# Altium schematic symbol library AltiumLibraries.SchLib: 537 symbols (part 2 of 5)
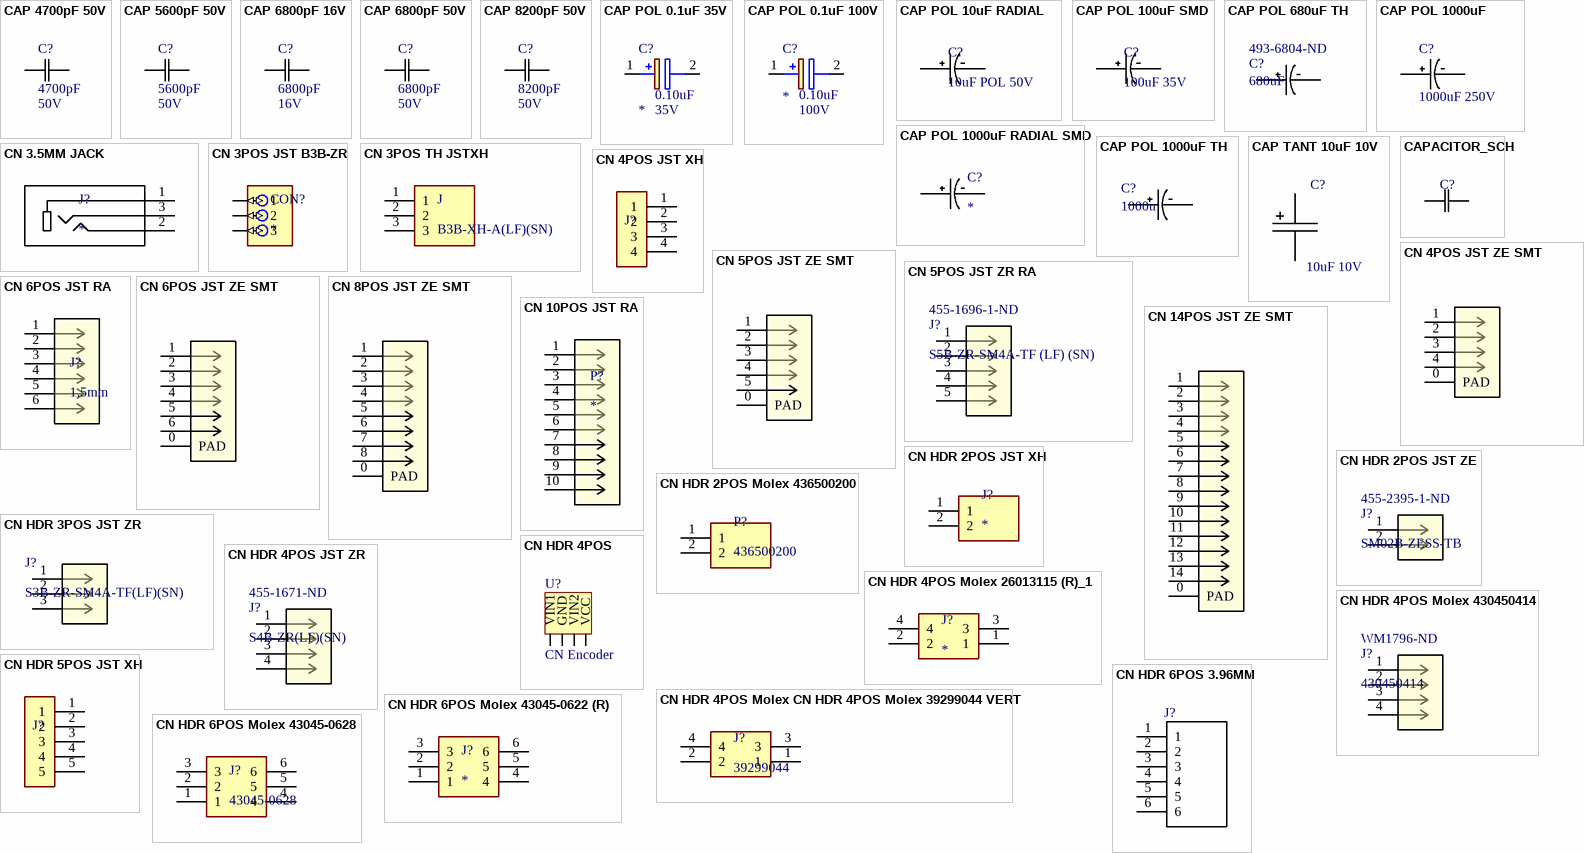
[diagram p15: symbols CAP 4700pF 50V to CN HDR 6POS Molex 43045-0628]

## CN 8POS JST ZE SMT
designator J?, comment BM08B-ZESS-TBT(LF)(SN)
CONN HEADER VERT SMD 8POS ZE; Supplier 1: Digi-Key; Supplier Part Number 1: 455-2386-1-ND
footprint JST ZE SMT 8POS (8 POS HDR JST ZE)
pins: 0 PAD, 1, 2, 3, 4, 5, 6, 7, 8

## CN 10POS JST RA
designator P?
Connector Header Through Hole, Right Angle 10 position 0.059" (1.50mm) ZH Series
footprint 10POS JST
pins: 1, 2, 3, 4, 5, 6, 7, 8, 9, 10

## CN 14POS JST ZE SMT
designator J?, comment BM14B-ZESS-TBT(LF)(SN)
CONN HEADER VERT SMD 14POS ZE; Supplier 1: Digi-Key; Supplier Part Number 1: 455-4210-1-ND
footprint JST ZE SMT 14POS (14 POS HDR JST ZE)
pins: 0 PAD, 1, 2, 3, 4, 5, 6, 7, 8, 9, 10, 11, 12, 13, 14

## CN HDR 2POS JST XH
designator J?
Connector Header Through Hole 2 position 0.098 _2.50mm_ / JST XH; MP: B2B-XH-A_LF__SN_; MF: JST Sales; Price: None; Package: None; Value: *; Availability: Unavailable; SnapEDA_Link: https://www.snapeda.com/parts/B2B-XH-A%28LF%29%28SN%29/JST%20Sales%20America%20Inc./view-part/492310/?ref=snap
footprint JST_B2B-XH-A(LF)(SN)
footprint JST_S2B-XH-A(LF)(SN)
pins: 1, 2

## CN HDR 2POS JST ZE
designator J?, comment SM02B-ZESS-TB  Supplier Part Number 1: 455-2395-1-ND
Connector Header Surface Mount, Right Angle 2 position 0.059" (1.50mm); Mfr_Name: JST; Copyright: Copyright (C) 2021 Ultra Librarian. All rights reserved.; Manufacturer_Part_Number: SM02B-ZESS-TB; RefDes: RefDes; Type: DEV; Supplier 1: Digi-Key
footprint CN SM02B-ZESS-TB_JST
pins: 1, 2

## CN HDR 2POS Molex 436500200
designator P?, comment 436500200
Connector Header Through Hole, Right Angle 2 position 0.118 (3.00mm); MF: Molex; MP: 436500200; Availability: Warning; SnapEDA_Link: https://www.snapeda.com/parts/436500200/Molex/view-part/4523841/?ref=snap; Package: None; Value: *; Price: None; Supplier 1: Digi-Key; Supplier Part Number 1: WM1860-ND
footprint MOLEX_436500200
pins: 1, 2

## CN HDR 3POS JST ZR
designator J?, comment S3B-ZR-SM4A-TF(LF)(SN)
Connector Header Surface Mount, Right Angle 3 position 0.059" (1.50mm); Mfr_Name: JST; Copyright: Copyright (C) 2021 Ultra Librarian. All rights reserved.; Manufacturer_Part_Number: S3B-ZR-SM4A-TF(LF)(SN); RefDes: RefDes; Type: DEV; ComponentLink1Description: Newark Link; ComponentLink1URL: https://canada.newark.com/jst-japan-solderless-terminals/s3b-zr-sm4a-tf/wire-to-board-connector-side-entry/dp/90R9343?CMP=AFC-OP
footprint CN S3B-ZR-SM4A-TF(LF)(SN)_JST
pins: 1, 2, 3

## CN HDR 4POS
designator U?, comment CN Encoder
CN HDR R/A 4POS 1.5MM; MF: JST Sales America Inc.; MP: S4B-ZR(LF)(SN); Rating: 1A; Digikey: 455-1671-ND; Digikey Link: https://www.digikey.ca/products/en?keywords=455-1671-ND; Price: 0.324 CAD; Package: N/A; Value: N/A; Supplier 1: Digi-Key; Supplier Part Number 1: 455-1671-ND
footprint EncoderConnector (CONN HEADER R/A 4POS 1.5MM)
pins: GND (power), VCC (power), VIN1 (in), VIN2 (in)

## CN HDR 4POS JST ZR
designator J?, comment S4B-ZR(LF)(SN)  Supplier Part Number 1: 455-1671-ND
Connector Header Through Hole, Right Angle 4 position 0.059" (1.50mm); Mfr_Name: JST; Copyright: Copyright (C) 2021 Ultra Librarian. All rights reserved.; Manufacturer_Part_Number: S4B-ZR(LF)(SN); Digi-Key_Part_Number_1: 455-1671-ND; RefDes: RefDes; Type: DEV; Supplier 1: Digi-Key
footprint CN S4B-ZR(LF)(SN)_JST
pins: 1, 2, 3, 4

## CN HDR 4POS Molex 26013115 (R)_1
designator J?
Molex 26013115 4POS Minifit / dual row, right angle
footprint 26013115
pins: 1, 2, 3, 4

## CN HDR 4POS Molex 430450414
designator J?, comment 430450414  Supplier Part Number 1: WM1796-ND
Connector Header Through Hole 4 position 0.118" (3.00mm); Mfr_Name: Molex Connector Corporation; Copyright: Copyright (C) 2021 Ultra Librarian. All rights reserved.; Manufacturer_Part_Number: 430450414; RefDes: RefDes; Type: DEV; Supplier 1: Digi-Key
footprint CN 430450414_MOL
pins: 1, 2, 3, 4

## CN HDR 4POS Molex CN HDR 4POS Molex 39299044 VERT
designator J?, comment 39299044
Molex 39299044 4POS Minifit / dual row, vertical; Supplier 1: Digi-Key; Supplier Part Number 1: WM7336-ND
footprint 39299044 (4 POS MOLEX VERT)
pins: 1, 2, 3, 4

## CN HDR 5POS JST XH
designator J?
Connector Header Through Hole 5 position 0.098" (2.50mm); MP: B5B-XH-A(LF)(SN); MF: JST Sales; Price: None; Package: None; Value: *; Availability: Unavailable; Digikey: 455-2270-ND; ComponentLink1Description: Digikey; ComponentLink1URL: https://www.digikey.ca/en/products/detail/jst-sales-america-inc/B5B-XH-A-LF-SN/1530483
footprint JST_B5B-XH-A(LF)(SN)
pins: 1, 2, 3, 4, 5

## CN HDR 6POS 3.96MM
designator J?, comment CONN HEADER VERT 6POS 3.96MM  (value not drawn)
MF: TE Connectivity; MP: 1877285-6; Current Rating: 7.5A; Voltage Rating: 250VAC; SnapEDA_Link: https://www.snapeda.com/parts/1877285-6/TE%20Connectivity/view-part/2371244/?ref=snap; Digikey: A99849-ND; Digikey Link: https://www.digikey.ca/product-detail/en/te-connectivity-amp-connectors/1877285-6/A99849-ND/2000097; Supplier 1: Digi-Key; Supplier Part Number 1: A99849-ND
footprint CN HDR 6POS 3.96MM
pins: 1, 2, 3, 4, 5, 6

## CN HDR 6POS Molex 43045-0622 (R)
designator J?
Molex 43045-0622 6POS Microfit / dual row, right angle
footprint 430450622
pins: 1, 2, 3, 4, 5, 6

## CN HDR 6POS Molex 43045-0628
designator J?, comment 43045-0628
Molex 43045-0628 6POS Microfit / dual row, Vertical; Supplier 1: Digi-Key; Supplier Part Number 1: WM10679-ND
footprint 430450628 (6 POS VERT MOLEX)
pins: 1, 2, 3, 4, 5, 6

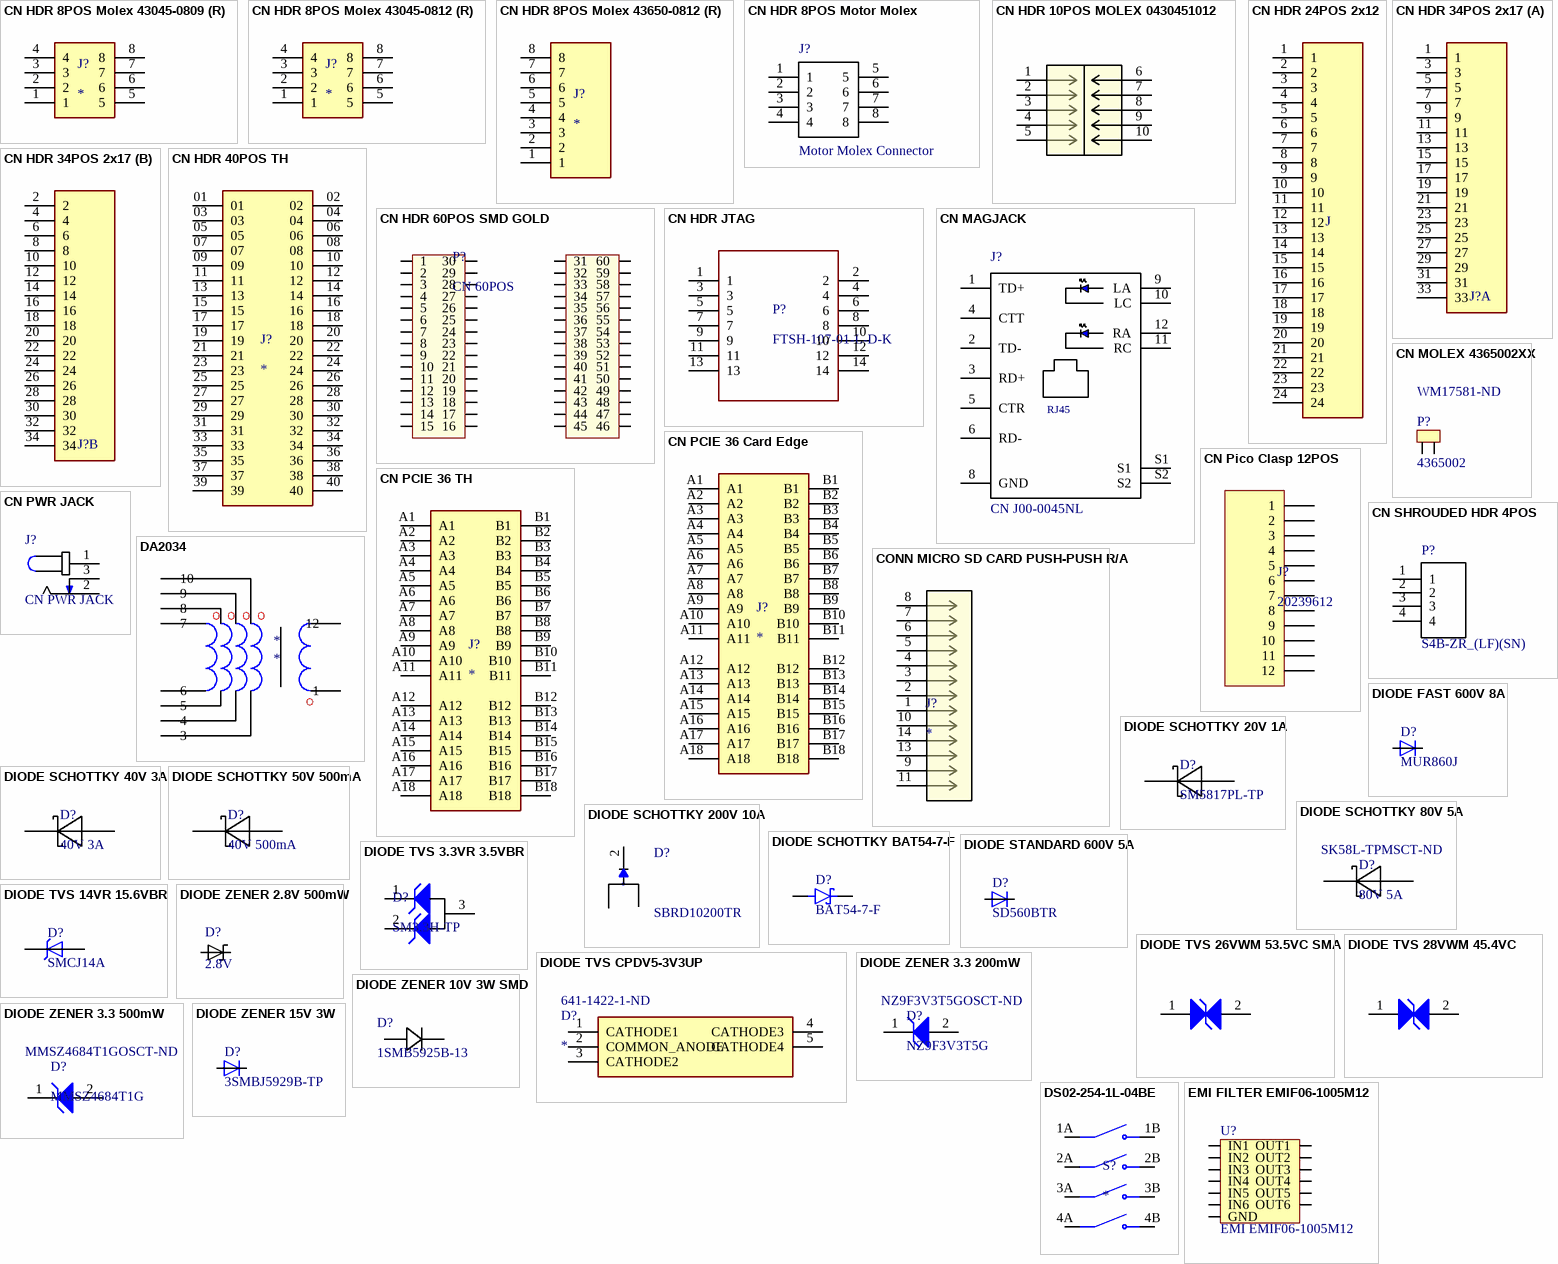
[diagram p4: symbols CN HDR 8POS Molex 43045-0809 (R) to EMI FILTER EMIF06-1005M12]

## CN HDR 8POS Molex 43045-0809 (R)
designator J?
Molex 43045-0809 8POS Microfit / dual row, right angle, surface mount
footprint CN 043045-0809 (Molex Micro-Fit 0430450 SMD 8CKT)
pins: 1, 2, 3, 4, 5, 6, 7, 8

## CN HDR 8POS Molex 43045-0812 (R)
designator J?
Molex 43045-0812 8POS Microfit / DR TH Vertical
footprint 4304508 (CN Vertical 8 Pin TH)
pins: 1, 2, 3, 4, 5, 6, 7, 8

## CN HDR 8POS Molex 43650-0812 (R)
designator J?
Molex 43650-0812 8POS Microfit / single row, right angle, surface mount
footprint CN 43650-0812 (Molex Micro-Fit 043650 SMD 8CKT)
pins: 1, 2, 3, 4, 5, 6, 7, 8

## CN HDR 8POS Motor Molex
designator J?, comment Motor Molex Connector
Connector Header Through Hole 8 position 0.165" (4.20mm); MP: 0039281083; MF: Molex; Digikey: WM3803-ND; Price: 1.624 CAD; Value: N/A; Digikey Link: https://www.digikey.ca/products/en?keywords=WM3803-ND; Supplier 1: Digi-Key; Supplier Part Number 1: WM3803-ND
footprint MOLEX_0039281083
pins: 1, 2, 3, 4, 5, 6, 7, 8

## CN HDR 10POS MOLEX 0430451012
designator J?, comment 8A Molex
CONN HEADER VERT 10POS 3MM; Manufacturer Part Number: 0430451012; Number of Terminals/Pins: 10; Contact Resistance: 10mR; Connector Type: Male Pin; Number of Ports: 1; Max Voltage Rating (AC): 250V; Pitch: 0.118inch; Supplier 1: Digi-Key; Manufacturer: Molex; RoHS: Yes; Category: Headers and Wire Housings; Stock 1: 22123; Pricing 1: 1=2.46000, 10=2.09300, 80=1.72925, 1224=1.36521, 6120=1.21049 (USD); Mount: Through Hole; Color: Black; Contact Material: Brass; Contact Plating: Tin; Housing Color: Black; Housing Material: Polymer; Min Operating Temperature: -40°C; Max Operating Temperature: 105°C; Packaging: Tray; Number of Rows: 2; Number of Positions: 10; Termination: Solder; Number of Contacts: 10; Orientation: Straight; Series: Micro-Fit 3.0™ 43045; Fastening Type: Ramp; Contact Type: Male Pin; Length: 19.15mm; Row Spacing: 0.118inch; Depth: 8.77mm; Flammability Rating: UL94 V-0; RoHS Compliant: Yes; ComponentLink1URL: http://components.arrow.com/part/dataview/0323_01052363?src-supplier=Arrow+Europe; ComponentLink1Description: http://components.arrow.com/part/dataview/0323_01052363?src-supplier=Arrow+Europe; ComponentLink2URL: http://components.arrow.com/part/dataview/2943140S3689940N3303?src-supplier=Arrow+Electronics; ComponentLink2Description: http://components.arrow.com/part/dataview/2943140S3689940N3303?src-supplier=Arrow+Electronics; Supplier Part Number 1: WM1793-ND
footprint MOLEX_0430451012
pins: 1, 2, 3, 4, 5, 6, 7, 8, 9, 10

## CN HDR 24POS 2x12
designator J  (value not drawn)
Pin Connector 2X12P MOD2 STIFTLEI 24 POS 0.1" 2.54mm
footprint CN Header 24 POS (12x2) (24 position, dual row, standard 0.1" (2.54mm) spacing.)
pins: 1, 2, 3, 4, 5, 6, 7, 8, 9, 10, 11, 12, 13, 14, 15, 16, 17, 18, 19, 20, 21, 22, 23, 24

## CN HDR 34POS 2x17
designator J?, comment 0.1" Header Female 34  (value not drawn)
Female Header THRU 34POS 2ROW 0.1" (2.54mm) pitch
footprint SAMTEC_ESQ-117-12-L-D
footprint SAMTEC-SSM-117-X-DV
part A pins: 1, 3, 5, 7, 9, 11, 13, 15, 17, 19, 21, 23, 25, 27, 29, 31, 33
part B pins: 2, 4, 6, 8, 10, 12, 14, 16, 18, 20, 22, 24, 26, 28, 30, 32, 34

## CN HDR 40POS TH
designator J?
SSQ - Samtec 2.54mm Square Tail Dual Row Socket Strip 8.5mm Profile; MP: SSQ-120-22-G-D; Value: *; Price: None; Package: None; MF: Samtec; Check_prices: https://www.snapeda.com/parts/SSQ-120-22-G-D/Samtec/view-part/3393219/?ref=eda; Availability: In Stock; SnapEDA_Link: https://www.snapeda.com/parts/SSQ-120-22-G-D/Samtec/view-part/3393219/?ref=snap; Purchase-URL: https://pricing.snapeda.com/search/part/SSQ-120-22-G-D/?ref=eda; Digikey: S6104-ND
footprint SAMTEC_SSQ-120-22-G-D
pins: 01, 02, 03, 04, 05, 06, 07, 08, 09, 10, 11, 12, 13, 14, 15, 16, 17, 18, 19, 20, 21, 22, 23, 24, 25, 26, 27, 28, 29, 30, 31, 32, 33, 34, 35, 36, 37, 38, 39, 40

## CN HDR 60POS SMD GOLD
designator P?, comment CN 60POS
60 Position Connector Header, Outer Shroud Contacts Surface Mount Gold; MF: Panasonic Electric Works; MP: AXK6S60647YG; Digikey: 255-2536-1-ND; Digikey Link: https://www.digikey.ca/product-detail/en/panasonic-electric-works/AXK6S60647YG/255-2536-1-ND/1986699; Price: 3.718; Value: N/A; Tolerance: N/A; Rating: N/A; Package: N/A; Supplier 1: Digi-Key; Supplier Part Number 1: 255-2536-1-ND
footprint CN HDR 60POS (60 Position Connector Header, Outer Shroud Contacts Surface Mount Gold)
pins: 1, 2, 3, 4, 5, 6, 7, 8, 9, 10, 11, 12, 13, 14, 15, 16, 17, 18, 19, 20, 21, 22, 23, 24, 25, 26, 27, 28, 29, 30, 31, 32, 33, 34, 35, 36, 37, 38, 39, 40, 41, 42, 43, 44, 45, 46, 47, 48, 49, 50, 51, 52, 53, 54, 55, 56, 57, 58, 59, 60

## CN HDR JTAG
designator P?, comment FTSH-107-01-L-D-K
Connector Header Through Hole 14 position 0.050" (1.27mm); MF: Samtec Inc.; Rating: 3.4A; ComponentLink1Description: Digikey; ComponentLink1URL: https://www.digikey.ca/product-detail/en/samtec-inc/FTSH-107-01-L-D-K/612-FTSH-107-01-L-D-K-ND/6693516; ComponentLink2Description: Datasheet; ComponentLink2URL: https://www.digikey.ca/en/datasheets/samtecinc/samtec-inc-ftsh-1xx-xx-xx-d-xx-xx-mkt; Digikey: 612-FTSH-107-01-L-D-K-ND; Digikey Link: https://www.digikey.ca/product-detail/en/samtec-inc/FTSH-107-01-L-D-K/612-FTSH-107-01-L-D-K-ND/6693516; MP: FTSH-107-01-L-D-K; Price: 5.14000 CAD; Supplier 1: Mouser; Supplier Part Number 1: 200-FTSH10701LDK
footprint CN HDR JTAG (CONN HEADER VERT 14POS 1.27MM)
pins: 1, 2, 3, 4, 5, 6, 7, 8, 9, 10, 11, 12, 13, 14

## CN MAGJACK
designator J?, comment CN J00-0045NL
CN MAGJACK 1PORT 100 BASE-TX; MF: Pulse Electronics; Package: None; Digikey Link: https://www.digikey.com/product-detail/en/pulse-electronics-network/J00-0045NL/553-1619-5-ND/1036860?utm_source=snapeda&utm_medium=aggregator&utm_campaign=symbol; Digikey: 553-1619-5-ND; SnapEDA_Link: https://www.snapeda.com/parts/J00-0045NL/Pulse%20Electronics%20Network/view-part/87956/?ref=snap; MP: J00-0045NL; Value: *; Supplier 1: Mouser; Supplier Part Number 1: 673-J00-0045NL
footprint RJ45 J00-0045NL
pins: 1 TD+, 2 TD-, 3 RD+, 4 CTT, 5 CTR, 6 RD-, 8 GND, 9 LA, 10 LC, 11 RC, 12 RA, S1, S2
text: RJ45

## CN MOLEX 4365002XX
designator P?, comment 4365002  Supplier Part Number 2: WM17581-ND
MOLEX MICROFIT 2CKT RIGHT THRU; MP: 4365002XX; MF: MOLEX; Digikey: WM17581-ND; Digikey Link: https://www.digikey.com/en/products/detail/molex/0436500205/3310532?s=N4IgTCBcDaICwGYBsBWADGsaUgLoF8g; Package: Microfit; Price: 1.44 CAD; Value: N/A; Supplier 1: Digi-Key
footprint 43650-02 (Molex Microfit 2PIN RightAngle Thru)
pins: 1, 2

## CN PCIE 36 Card Edge
designator J?
36 Position Male PCIE Connector
footprint CN PCIE EDGE 36CKT (PCIE X1 36pin card edge)
pins: A1, A2, A3, A4, A5, A6, A7, A8, A9, A10, A11, A12, A13, A14, A15, A16, A17, A18, B1, B2, B3, B4, B5, B6, B7, B8, B9, B10, B11, B12, B13, B14, B15, B16, B17, B18

## CN PCIE 36 TH
designator J?
36 Position Female Connector PCI Expressâ„¢ Gold 0.039 _1.00mm_ Black 10018784-10210TLF; MF: Amphenol ICC; Price: None; SnapEDA_Link: https://www.snapeda.com/parts/10018784-10210TLF/Amphenol%20FCI/view-part/520950/?ref=snap; Availability: Unavailable; MP: 10018784-10210TLF; Package: None; Value: *
footprint CN PCIE 36 TH (AMPHENOL_10018784-10210TLF)
pins: A1, A2, A3, A4, A5, A6, A7, A8, A9, A10, A11, A12, A13, A14, A15, A16, A17, A18, B1, B2, B3, B4, B5, B6, B7, B8, B9, B10, B11, B12, B13, B14, B15, B16, B17, B18

## CN Pico Clasp 12POS
designator J?, comment 20239612
12 POS Right Angle Pico Clasp Surface Mount
footprint CN 20239612 (12 Circuit SMD Right Angle PicoClasp)
footprint CN 20355612 (12 Circuit SMD Right Angle PicoClasp)
pins: 1, 2, 3, 4, 5, 6, 7, 8, 9, 10, 11, 12

## CN PWR JACK
designator J?
1.3 x 4.2 mm, 2.0 A, Horizontal, Through Hole, Dc Power Jack Connector; MP: PJ-007; MF: CUI Devices; Current Rating: 2.0A; Price: None; SnapEDA_Link: https://www.snapeda.com/parts/PJ-007/CUI%20Devices/view-part/260682/?ref=snap; Package: None; Availability: Unavailable; CUI_purchase_URL: https://www.cuidevices.com/product/interconnect/connectors/dc-power-connectors/jacks/pj-007?utm_source=snapeda.com&utm_medium=referral&utm_campaign=snapedaBOM; Value: *; Supplier 1: Digi-Key; Supplier Part Number 1: CP-2519-ND
footprint CUI_PJ-007
pins: 1, 2, 3

## CN SHROUDED HDR 4POS
designator P?, comment S4B-ZR_(LF)(SN)
Conn Shrouded Header HDR 4 POS 1.5mm Solder RA Thru-Hole Box; MP: S4B-ZR _LF__SN_; MF: JST Sales; Package: None; Price: None; Digikey PN: 455-1671-ND; Supplier 1: Digi-Key; Supplier Part Number 1: 455-1671-ND
footprint JST_S4B-ZR(LF)(SN)
pins: 1, 2, 3, 4

## CONN MICRO SD CARD PUSH-PUSH R/A
designator J?
10 (8 + 2) Position Card Connector Secure Digital - microSD™ Surface Mount, Right Angle Gold; MF: Molex; MP: 5027740891; ComponentLink1Description: Digikey; ComponentLink1URL: https://www.digikey.ca/en/products/detail/molex/5027740891/1952536; Digikey: WM24066CT-ND; ComponentLink2Description: Datasheet; ComponentLink2URL: https://www.molex.com/pdm_docs/sd/5027740891_sd.pdf
footprint SD Connector 5027740891
pins: 1, 2, 3, 4, 5, 6, 7, 8, 9, 10, 11, 13, 14

## DA2034
designator *
Audio Transformers / Signal Transformers DA2032 Cap Chrgr For Linear LT3750/51; Supplier 1: Mouser; Supplier Part Number 1: 994-DA2034-ALB
footprint DA2034
pins: 1, 3, 4, 5, 6, 7, 8, 9, 10, 12

## DIODE FAST 600V 8A
designator D?, comment MUR860J
Diode Standard 600 V 8A Surface Mount SMC; Supplier 1: Digi-Key; Supplier Part Number 1: 1740-MUR860JCT-ND; ComponentLink1Description: Octopart Link; ComponentLink1URL: https://octopart.com/search?q=MUR860J&currency=USD&specs=0
footprint DO-214AB-DIODES
pins: 1 C, 2 A

## DIODE SCHOTTKY 20V 1A
designator D?, comment SM5817PL-TP
Diode Schottky 20V 1A Surface Mount SOD-123FL; MF: Micro Commercial Co; ComponentLink1Description: digikey; ComponentLink1URL: https://www.digikey.ca/product-detail/en/on-semiconductor/MBR0540T1G/MBR0540T1GOSCT-ND/917967; Digikey: SM5817PL-TPMSCT-ND; Digikey Link: https://www.digikey.ca/product-detail/en/micro-commercial-co/SM5817PL-TP/SM5817PL-TPMSCT-ND/1793410; MP: SM5817PL-TP; Voltage Rating: 20V; Package: SOD-123; Current Rating: 1A
footprint SOD-123
pins: A, C K

## DIODE SCHOTTKY 40V 3A
designator D?, comment 40V 3A
Diode Schottky 40V 3A Surface Mount SMA; Voltage - Forward (Vf) (Max) @ If: 450mV @ 3A; ComponentLink1Description: digikey; ComponentLink1URL: https://www.digikey.ca/product-detail/en/on-semiconductor/MBR0540T1G/MBR0540T1GOSCT-ND/917967; Voltage - DC Reverse (Vr) (Max): 40V; Package: DO-214AC; Current - Average Rectified (Io): 3A
footprint DO-214AC
pins: A, C K

## DIODE SCHOTTKY 50V 500mA
designator D?, comment 40V 500mA
DIODE SCHOTTKY SMD 40V 500mA SOD123; Speed: Fast Recovery =< 500ns, > 200mA (Io); Voltage - Forward (Vf) (Max) @ If: 510mV @ 500mA; ComponentLink1Description: digikey; ComponentLink1URL: https://www.digikey.ca/product-detail/en/on-semiconductor/MBR0540T1G/MBR0540T1GOSCT-ND/917967; Voltage - DC Reverse (Vr) (Max): 40V; Package: SOD-123; Current - Average Rectified (Io): 500mA
footprint SOD-123
pins: A, C

## DIODE SCHOTTKY 80V 5A
designator D?, comment 80V 5A  Supplier Part Number 1: SK58L-TPMSCT-ND
Diode Schottky 80V 5A Surface Mount SMA; Voltage - Forward (Vf) (Max) @ If: 850 mV @ 5 A; Voltage - DC Reverse (Vr) (Max): 80V; Package: DO-214AB; Current - Average Rectified (Io): 5A; Supplier 1: Digi-Key
footprint DIOSC6959X240
pins: A, C K

## DIODE SCHOTTKY 200V 10A
designator D?, comment SBRD10200TR
Diode Schottky 200V 10A Surface Mount DPAK; MF: SMC Diode; MP: SBRD10200TR; SnapEDA_Link: https://www.snapeda.com/parts/SBRD10200TR/SMC%20Diode%20Solutions/view-part/702246/?ref=snap; Package: TO-252-3 SMC; ComponentLink1Description: digikey; ComponentLink1URL: https://www.digikey.ca/product-detail/en/smc-diode-solutions/SBRD10200TR/1655-1939-1-ND/8625508; Digikey: 1655-1939-1-ND; Digikey Link: https://www.digikey.ca/product-detail/en/smc-diode-solutions/SBRD10200TR/1655-1939-1-ND/8625508
footprint DPAK
pins: 1, 2, 3

## DIODE SCHOTTKY BAT54-7-F
designator D?, comment BAT54-7-F
DIODE SCHOTTKY 30V 200MA SOT23-3; Manufacturer: Diodes Incorporated; VDC Reverse: 30 V; Digikey Link: https://www.digikey.ca/en/products/detail/diodes-incorporated/BAT54-7-F/717699; Digikey PN: BAT54-FDICT-ND
footprint BAT54-7-F
pins: 1 A, 3 K

## DIODE STANDARD 600V 5A
designator D?, comment SD560BTR
Diode Standard 600V 5A Surface Mount SMB; Supplier 1: Digi-Key; Supplier Part Number 1: 1655-1530-1-ND
footprint DO-214AA
pins: A, C

## DIODE TVS 3.3VR 3.5VBR
designator D?, comment SM3.3H-TP
3.3V Reverese Standoff, 3.5V Breakdown, 12.5V Clamp 40A (8/20µs) Ipp Tvs Diode SMD SOT-23; ComponentLink1Description: Octopart Link; ComponentLink1URL: https://octopart.com/search?q=SM3.3H-TP&currency=USD&specs=0
footprint SOT-23A-3
pins: 1, 2, 3

## DIODE TVS 14VR 15.6VBR
designator D?, comment SMCJ14A
23.2V Clamp 64.7A Ipp Tvs Diode Surface Mount DO-214AB (SMC), VR = 14V, VBR = 15.6V; Package: None; Price: None; Value: *; MP: SMCJ14A; Availability: Unavailable; Supplier 1: Digi-Key; Supplier 2: Mouser; Supplier Part Number 1: SMCJ14ABCT-ND; Supplier Part Number 2: 652-SMCJ14A
footprint DIOM7959X262N
pins: A, C

## DIODE TVS 26VWM 53.5VC SMA
designator D?, comment TVS
TVS DIODE 26V 53.5V SMA; Manufacturer: STMicroelectronics; Manufacturer Part Number: SMAJ26CA-TR; Min Breakdown Voltage: 28.9V; Peak Pulse Power: 400W; Peak Pulse Current: 43A; Test Current: 1mA; Direction: Bidirectional; Number of Bidirectional Channels: 1; Power Line Protection: No; Max Reverse Leakage Current: 200nA; Element Configuration: Single; Diode Type: ZENER; Max Breakdown Voltage: 30.4V; Power Dissipation: 3.3W; Supplier 1: Digi-Key; RoHS: Yes; Category: TVS Diodes; Stock 1: 2361; Pricing 1: 1=0.48000, 10=0.38700, 100=0.26330, 500=0.19748, 1000=0.14810, 2000=0.13576 (USD); Mount: Surface Mount; Case/Package: DO-214AC; Number of Pins: 2; Min Operating Temperature: -55°C; Max Operating Temperature: 150°C; Reverse Standoff Voltage: 26V; Clamping Voltage: 53.5V; Packaging: Tape and Reel; Resistor Type: Zener; Package Quantity: 1; Max Surge Current: 43A; Reverse Breakdown Voltage: 28.9V; Breakdown Voltage: 28.9V; Polarity: Bidirectional; Number of Elements: 1; Leakage Current: 200nA; Series: SMAJ, TRANSIL™; Operating Supply Voltage: 26V; Length: 4.6mm; Width: 2.9mm; Height: 2.45mm; Radiation Hardening: No; RoHS Compliant: Yes; Lead Free: Lead Free; REACH SVHC: No SVHC; ComponentLink1URL: https://datasheet.ciiva.com/337/cd00001333-337790.pdf?src-supplier=Digi-Key; ComponentLink1Description: https://datasheet.ciiva.com/337/cd00001333-337790.pdf?src-supplier=Digi-Key; ComponentLink2URL: https://datasheet.ciiva.com/337/cd00001333-337791.pdf?src-supplier=Digi-Key; ComponentLink2Description: https://datasheet.ciiva.com/337/cd00001333-337791.pdf?src-supplier=Digi-Key; ComponentLink3URL: https://datasheet.ciiva.com/337/cd00001333-337792.pdf?src-supplier=Digi-Key; ComponentLink3Description: https://datasheet.ciiva.com/337/cd00001333-337792.pdf?src-supplier=Digi-Key; ComponentLink4URL: https://datasheet.ciiva.com/17400/cd00001333-17400827.pdf?src-supplier=Avnet+Europe; ComponentLink4Description: https://datasheet.ciiva.com/17400/cd00001333-17400827.pdf?src-supplier=Avnet+Europe; ComponentLink5URL: https://datasheet.ciiva.com/7973/1724007-7973482.pdf?src-supplier=Element14; ComponentLink5Description: https://datasheet.ciiva.com/7973/1724007-7973482.pdf?src-supplier=Element14; Supplier Part Number 1: 497-12523-1-ND
footprint DO-214AC, SMA
pins: 1 K, 2 A

## DIODE TVS 28VWM 45.4VC
designator D?, comment TVS
Diode TVS Single Bi-Directional 28V 5KW 2-Pin SMC T/R; Manufacturer: Eaton Bussmann; Manufacturer Part Number: 5-0SMDJ28CA; Supplier 1: Digi-Key; RoHS: No; Category: TVS Diodes; Stock 1: 2588; Pricing 1: 1=1.71000, 10=1.52500, 100=1.18910, 500=0.98230, 1000=0.77550 (USD); Supplier Part Number 1: 283-5-0SMDJ28CACT-ND
footprint DO-214AB, SMC
pins: 1 K, 2 A

## DIODE TVS CPDV5-3V3UP
designator D?  Supplier Part Number 1: 641-1422-1-ND
TVS Diode Bidirectional Vbr = 3.5V, Working Voltage = 3.3V; Manufacturer_Name: Comchip Technology; Manufacturer_Part_Number: CPDV5-3V3UP; Datasheet Link: http://www.comchiptech.com/admin/files/product/CPDV5-3V3UP-HF%20RevB181493.pdf; Height: 1.1mm; Arrow Part Number: CPDV5-3V3UP; Arrow Price/Stock: https://www.arrow.com/en/products/cpdv5-3v3up/comchip-technology; Mouser Part Number: 750-CPDV5-3V3UP; Mouser Price/Stock: https://www.mouser.com/Search/Refine.aspx?Keyword=750-CPDV5-3V3UP; Supplier 1: Digi-Key
footprint SOT65P230X110-5N
pins: 1 CATHODE1, 2 COMMON_ANODE, 3 CATHODE2, 4 CATHODE3, 5 CATHODE4

## DIODE ZENER 2.8V 500mW
designator D?, comment 2.8V
Zener Diode 2.8V 500mW ±5% Surface Mount SOD-123; Manufacturer: MMSZ5245B-TP; Impedance (Max) (Zzt): 30 Ohms; Current - Reverse Leakage @ Vr: 75µA @ 1V; Voltage - Forward (Vf) (Max) @ If: 900mV @ 10mA; ComponentLink1Description: digikey; ComponentLink1URL: https://www.digikey.ca/en/products/detail/micro-commercial-co/MMSZ5245B-TP/1793206; Power - Max: 500mW; Voltage - Zener (Nom) (Vz): 2.8V; DigiKey: MMSZ5245B-TPMSCT-ND
footprint SOD-123
pins: A, C

## DIODE ZENER 3.3 200mW
designator D?, comment NZ9F3V3T5G  Supplier Part Number 1: NZ9F3V3T5GOSCT-ND
Zener Diode 3.3 V 200 mW ±5% Surface Mount SOD-923; Mfr_Name: ON Semiconductor; Type: DEV; Copyright: Copyright (C) 2021 Ultra Librarian. All rights reserved.; Manufacturer_Part_Number: NZ9F3V3T5G; Digi-Key_Part_Number_1: NZ9F3V3T5GOSTR-ND; Digi-Key_Part_Number_2: NZ9F3V3T5GOSCT-ND; Digi-Key_Part_Number_3: NZ9F3V3T5GOSDKR-ND; RefDes: RefDes; Supplier 1: Digi-Key
footprint SOD-923_0P6X0P85_ONS
pins: 1 K, 2 A

## DIODE ZENER 3.3 500mW
designator D?, comment MMSZ4684T1G  Supplier Part Number 1: MMSZ4684T1GOSCT-ND
Zener 3V3 Voltage Regulator, 500 mW, 2-Pin SOD-123, Pb-Free, Tape and Reel; Manufacturer: On Semiconductor; P Max (W): 0.5; VZ Typ (V): 3.3; ComponentLink2URL: http://www.onsemi.com/pub_link/Collateral/MMSZ4678T1-D.PDF; ComponentLink1URL: http://www.onsemi.com/; PartNumber: MMSZ4684T1G; ComponentLink2Description: Datasheet; ComponentLink3URL: http://www.onsemi.com/pub_link/Collateral/425-04.PDF; DatasheetVersion: Rev. 9; ComponentLink1Description: Manufacturer URL; RoHS: Pb-Free; ComponentLink3Description: Package Specification; PackageReference: SOD-123-2-425-04; PackageVersion: Rev. G, 10/2009; Mounting Technology: Surface Mount; Packing: Tape and Reel; PackageDescription: 2-Pin SOD, Body 1.6 x 2.69 mm; Supplier 1: Digi-Key
footprint ONSC-SOD-123-2-425-04_V (SOD, 2-Leads, Body 2.69x1.6mm)
pins: 1 K, 2 A

## DIODE ZENER 10V 3W SMD
designator D?, comment 1SMB5925B-13
Zener Diode 10 V 3 W ±5% Surface Mount SMB; Mfr_Name: Diodes Inc; Type: DEV; Copyright: Copyright (C) 2021 Ultra Librarian. All rights reserved.; Manufacturer_Part_Number: 1SMB5925B-13; Digi-Key_Part_Number_1: 1SMB5925B13DICT-ND; Digi-Key_Part_Number_2: 1SMB5925B13DITR-ND; RefDes: RefDes; Supplier 1: Digi-Key; Supplier Part Number 1: 1SMB5925B13DICT-ND
footprint SMB_DIO
pins: 1, 2

## DIODE ZENER 15V 3W
designator D?, comment 3SMBJ5929B-TP
Diode ZENER 15V 3W; Supplier 1: Digi-Key; Supplier Part Number 1: 3SMBJ5929BTPMSCT-ND
footprint DO-214AA
footprint SOD-123
pins: A, C

## DS02-254-1L-04BE
designator S?
Dip Switch Piano Key 4-position; MP: DS02-254-1L-04BE; Package: None; Price: None; Value: *; Availability: Unavailable
footprint SW_DS02-254-1L-04BE
pins: 1A COM1, 1B NO1, 2A COM2, 2B NO2, 3A COM3, 3B NO3, 4A COM4, 4B NO4

## EMI FILTER EMIF06-1005M12
designator U?, comment EMI EMIF06-1005M12
FILTER RC(PI) 100 OHM/45PF SMD; MF: STMicroelectronics; Price: 0.49 CAD; Digikey: 497-7740-1-ND; MP: EMIF06-1005M12; Digikey Link: https://www.digikey.ca/product-detail/en/stmicroelectronics/EMIF06-1005M12/497-7740-1-ND/1883755; Package: 12-UFDFN; Supplier 1: Digi-Key; Supplier Part Number 1: 497-7740-1-ND
footprint Filter (EMIFilter)
pins: 1 IN1, 2 IN2, 3 IN3, 4 IN4, 5 IN5, 6 IN6, 7 OUT1, 8 OUT2, 9 OUT3, 10 OUT4, 11 OUT5, 12 OUT6, GND

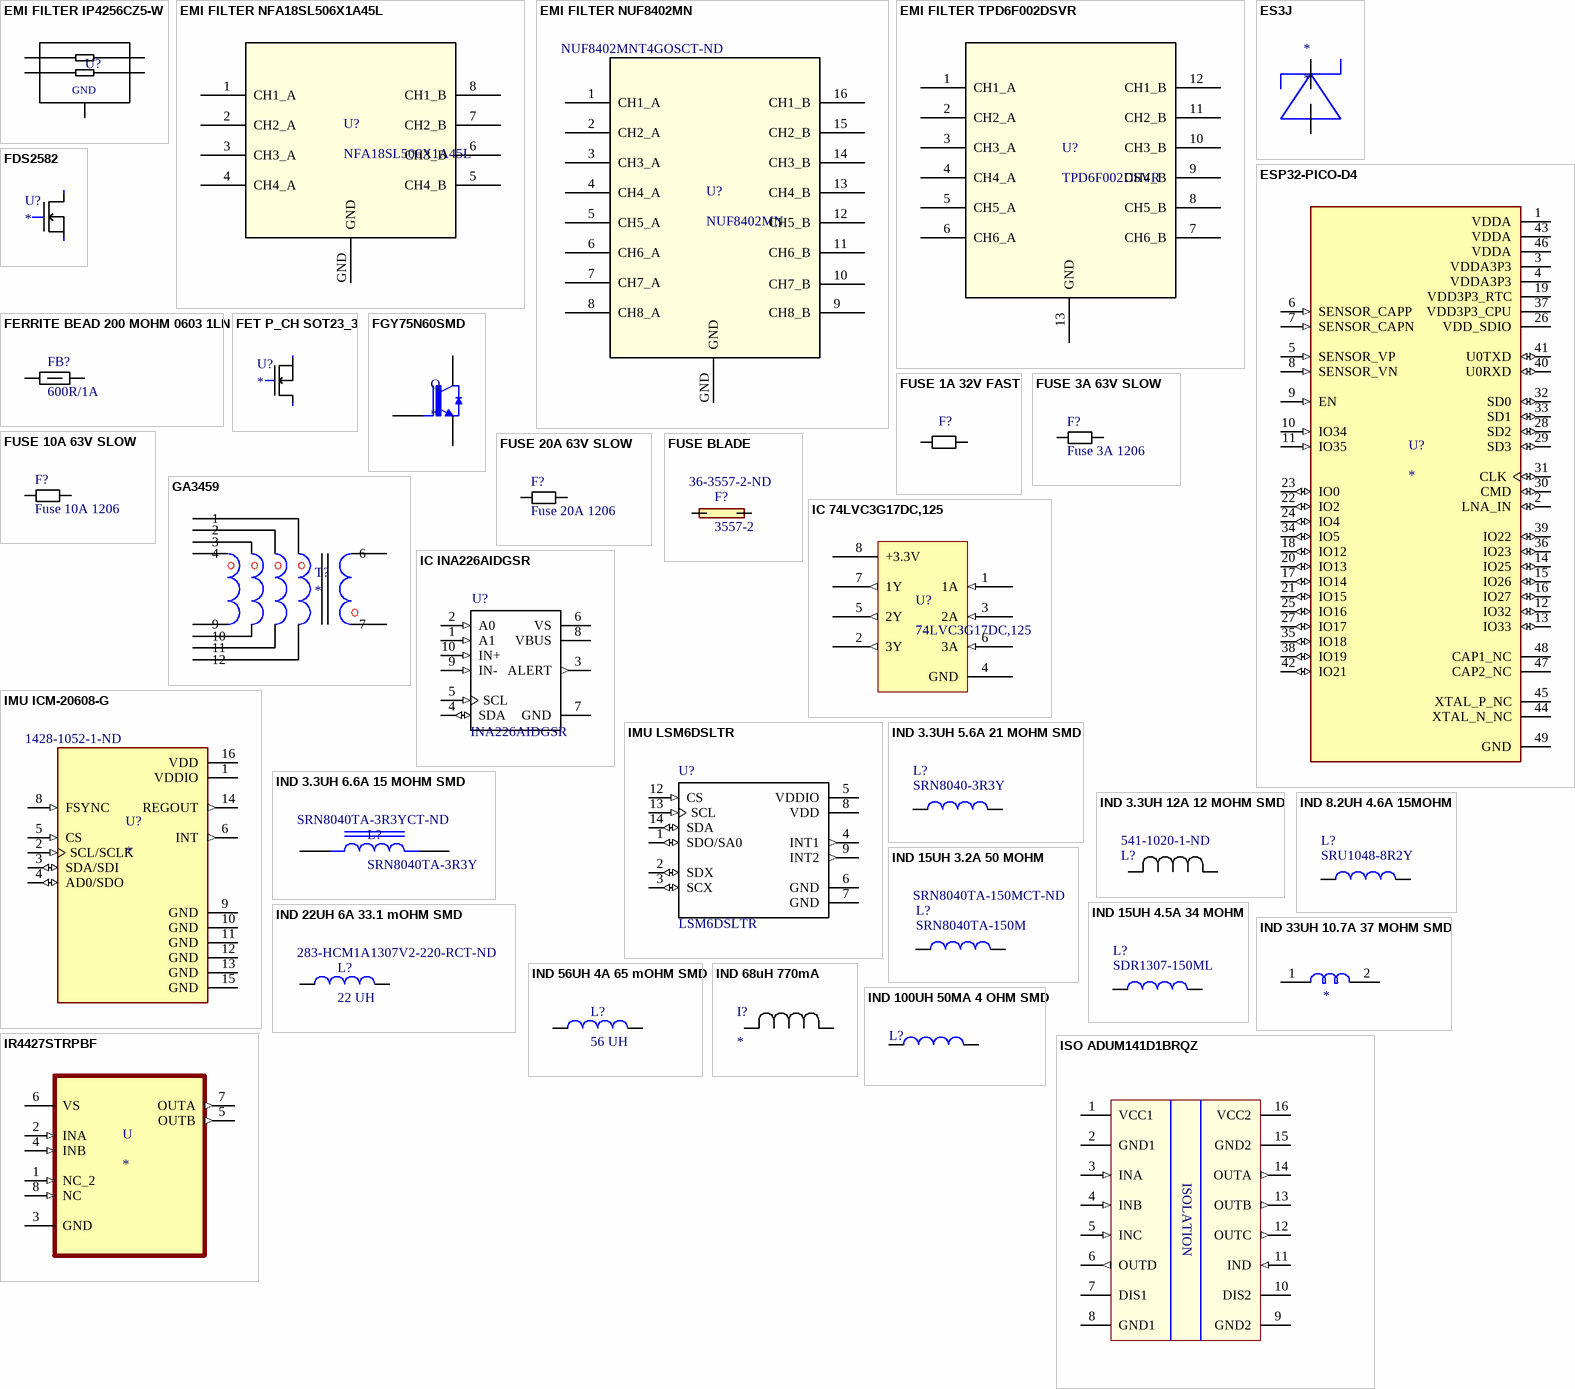
[diagram p5: symbols EMI FILTER IP4256CZ5-W to ISO ADUM141D1BRQZ]

## EMI FILTER IP4256CZ5-W
designator U?, comment EMI  (value not drawn)
FILTER RC(PI) 100 OHM/19PF SMD; MF: Nexperia USA Inc.; MP: IP4256CZ5-W,115; SnapEDA_Link: https://www.snapeda.com/parts/IP4256CZ5-W/Nexperia%20USA%20Inc./view-part/3605439/?ref=snap; Price: 0.17 CAD; Package: SOT-665; Digikey: 1727-4718-1-ND; Digikey Link: https://www.digikey.ca/product-detail/en/nexperia-usa-inc/IP4256CZ5-W115/1727-4718-1-ND/2531158; Supplier 1: Digi-Key; Supplier Part Number 1: 1727-4718-1-ND
footprint SOT-665
pins: 1 P$1, 2 P$2, 3 P$3, 4 P$4, 5 P$5
text: GND

## EMI FILTER NFA18SL506X1A45L
designator U?, comment NFA18SL506X1A45L
4-Channel EMI Filter 55Mhz LC 2nd Order; Manufacturer: MURATA; GENERIC_PART_NUMBER: TPD6F002; Manufacturer_Part_Number: TPD6F002DSVR; INDUSTRY_STD_PKG_TYPE: 0603 Array; FAMILY_NAME: EMI Solution; PIN_COUNT: 10; Vendor: Texas Instruments; Copyright: Copyright (C) 2018 Accelerated Designs. All rights reserved; RefDes: RefDes; Type: DEV; Supplier 1: Digi-Key
footprint CAF-40P155X80-8N (Chip Array, Flat, 8-Leads, Pitch 0.40mm,  Body 1.55x0.80mm,  IPC Medium Density)
pins: 1 CH1_A, 2 CH2_A, 3 CH3_A, 4 CH4_A, 5 CH4_B, 6 CH3_B, 7 CH2_B, 8 CH1_B, GND

## EMI FILTER NUF8402MN
designator U?, comment NUF8402MN  Supplier Part Number 1: NUF8402MNT4GOSCT-ND
EMI Filter 8ch 105Mhz 100Ohm; Supplier 1: Digi-Key
footprint SON50P160X100_HS-17M (SON, 16-Leads, Body 4.00x1.60mm, Pitch 0.50mm, Thermal Pad 4.10x0.50mm, IPC Low Density)
pins: 1 CH1_A, 2 CH2_A, 3 CH3_A, 4 CH4_A, 5 CH5_A, 6 CH6_A, 7 CH7_A, 8 CH8_A, 9 CH8_B, 10 CH7_B, 11 CH6_B, 12 CH5_B, 13 CH4_B, 14 CH3_B, 15 CH2_B, 16 CH1_B, GND

## EMI FILTER TPD6F002DSVR
designator U?, comment TPD6F002DSVR
6-Channel EMI Filter for Display Interface; Manufacturer: Texas Instruments; INDUSTRY_STD_PKG_TYPE: SON; FAMILY_NAME: EMI Solution; PIN_COUNT: 12; PACKAGE_DESIGNATOR: DSV; Datasheet_URL: http://www.ti.com/lit/gpn/TPD6F002; GENERIC_PART_NUMBER: TPD6F002; Vendor: Texas Instruments; Manufacturer_Part_Number: TPD6F002DSVR; Copyright: Copyright (C) 2018 Accelerated Designs. All rights reserved; RefDes: RefDes; Type: DEV
footprint PSON50P140X80_HS-13N (PSON, 12-Leads, Body 3.00x1.35mm, Pitch 0.50mm, Thermal Pad 3.05x0.31mm, IPC Medium Density)
pins: 1 CH1_A, 2 CH2_A, 3 CH3_A, 4 CH4_A, 5 CH5_A, 6 CH6_A, 7 CH6_B, 8 CH5_B, 9 CH4_B, 10 CH3_B, 11 CH2_B, 12 CH1_B, 13 GND

## ES3J
designator *
Diode Switching 600V 3A 2-Pin DO-214AB T/R; Manufacturer: ON Semiconductor / Fairchild; Manufacturer Part Number: ES3J; Element Configuration: Single; Power Dissipation: 1.66W; Reverse Recovery Time: 35ns; Peak Non-Repetitive Surge Current: 100A; Polarity: Standard; Capacitance: 45pF; Forward Voltage: 1.7V; Peak Reverse Current: 10uA; Supplier 1: Digi-Key; RoHS: Yes; Category: Zener Diodes; Stock 1: 20740; Pricing 1: 1=0.47000, 10=0.37800, 25=0.34600, 100=0.21740, 250=0.21492, 500=0.20126, 1000=0.13685 (USD); Mount: Surface Mount; Case/Package: SMC; Number of Pins: 2; Contact Plating: Tin,Matte; Min Operating Temperature: -50°C; Max Operating Temperature: 150°C; Reverse Voltage: 600V; Max Reverse Voltage (DC): 600V; Average Rectified Current: 3A; Max Repetitive Reverse Voltage (Vrrm): 600V; Max Forward Surge Current (Ifsm): 100A; Current: 3A; Voltage: 600V; Voltage Rating (DC): 600V; Current Rating: 3A; Output Current: 3A; Max Surge Current: 100A; Packaging: Tape and Reel; Package Quantity: 3000; Recovery Time: 35ns; Forward Current: 3A; Length: 7.11mm; Height: 2.616mm; Width: 6.223mm; Radiation Hardening: No; REACH SVHC: No SVHC; Lead Free: Lead Free; ComponentLink1URL: https://datasheet.ciiva.com/4452/es3j-187547-4452440.pdf?src-supplier=Mouser; ComponentLink1Description: https://datasheet.ciiva.com/4452/es3j-187547-4452440.pdf?src-supplier=Mouser; ComponentLink2URL: https://datasheet.ciiva.com/30479/0900766b810e1d0b-30479500.pdf?src-supplier=RSComponents; ComponentLink2Description: https://datasheet.ciiva.com/30479/0900766b810e1d0b-30479500.pdf?src-supplier=RSComponents; ComponentLink3URL: https://datasheet.ciiva.com/22651/1856389-22651960.pdf?src-supplier=Element14; ComponentLink3Description: https://datasheet.ciiva.com/22651/1856389-22651960.pdf?src-supplier=Element14; ComponentLink4URL: https://datasheet.ciiva.com/26230/es3j-26230952.pdf?src-supplier=Avnet+Europe; ComponentLink4Description: https://datasheet.ciiva.com/26230/es3j-26230952.pdf?src-supplier=Avnet+Europe; ComponentLink5URL: https://datasheet.ciiva.com/911/es3a-911003.pdf?src-supplier=Digi-Key; ComponentLink5Description: https://datasheet.ciiva.com/911/es3a-911003.pdf?src-supplier=Digi-Key; ComponentLink6URL: https://datasheet.ciiva.com/911/es3a-911004.pdf?src-supplier=Digi-Key; ComponentLink6Description: https://datasheet.ciiva.com/911/es3a-911004.pdf?src-supplier=Digi-Key; ComponentLink7URL: https://datasheet.ciiva.com/23683/1856389-23683564.pdf?src-supplier=Newark; ComponentLink7Description: https://datasheet.ciiva.com/23683/1856389-23683564.pdf?src-supplier=Newark; ComponentLink8URL: https://datasheet.ciiva.com/17194/es3j-17194703.pdf?src-supplier=Future+Electronics; ComponentLink8Description: https://datasheet.ciiva.com/17194/es3j-17194703.pdf?src-supplier=Future+Electronics; ComponentLink9URL: https://datasheet.ciiva.com/7965/1856389-7965165.pdf?src-supplier=Element14; ComponentLink9Description: https://datasheet.ciiva.com/7965/1856389-7965165.pdf?src-supplier=Element14; ComponentLink10URL: https://datasheet.ciiva.com/8300/es3j-8300861.pdf?src-supplier=Avnet; ComponentLink10Description: https://datasheet.ciiva.com/8300/es3j-8300861.pdf?src-supplier=Avnet; Supplier Part Number 1: ES3JCT-ND
footprint DO-214AB
pins: IN, OUT

## ESP32-PICO-D4
designator U?
Bluetooth, WiFi 802.11b/g/n, Bluetooth v4.2 +EDR, Class 1, 2 and 3 Transceiver Module 2.4GHz ~ 2.5GHz Surface Mount; MP: ESP32-PICO-D4; MF: Espressif Systems; Package: SMD-48 Espressif Systems; Availability: Warning; Price: None; Purchase-URL: https://pricing.snapeda.com/search/part/ESP32-PICO-D4/?ref=eda; Check_prices: https://www.snapeda.com/parts/ESP32-PICO-D4/Espressif%20Systems/view-part/2762121/?ref=eda; SnapEDA_Link: https://www.snapeda.com/parts/ESP32-PICO-D4/Espressif%20Systems/view-part/2762121/?ref=snap; Value: *
footprint PQFN50P700X700X104-49N
pins: 1 VDDA (power), 2 LNA_IN (io), 3 VDDA3P3 (power), 4 VDDA3P3 (power), 5 SENSOR_VP (in), 6 SENSOR_CAPP (in), 7 SENSOR_CAPN (in), 8 SENSOR_VN (in), 9 EN (in), 10 IO34 (in), 11 IO35 (in), 12 IO32 (io), 13 IO33 (io), 14 IO25 (io), 15 IO26 (io), 16 IO27 (io), 17 IO14 (io), 18 IO12 (io), 19 VDD3P3_RTC (power), 20 IO13 (io), 21 IO15 (io), 22 IO2 (io), 23 IO0 (io), 24 IO4 (io), 25 IO16 (io), 26 VDD_SDIO (power), 27 IO17 (io), 28 SD2 (io), 29 SD3 (io), 30 CMD (io), 31 CLK (io), 32 SD0 (io), 33 SD1 (io), 34 IO5 (io), 35 IO18 (io), 36 IO23 (io), 37 VDD3P3_CPU (power), 38 IO19 (io), 39 IO22 (io), 40 U0RXD (io), 41 U0TXD (io), 42 IO21 (io), 43 VDDA (power), 44 XTAL_N_NC, 45 XTAL_P_NC, 46 VDDA (power), 47 CAP2_NC, 48 CAP1_NC, 49 GND (power)

## FDS2582
designator U?
N-Channel 150V 4.1A (Ta) 2.5W (Ta) Surface Mount 8-SOIC; MF: ON Semiconductor; MP: FDS2582; Digikey: FDS2582CT-ND; Price: 0.98 CAD; Rating: 150V; Digikey Link: https://www.digikey.com/product-detail/en/on-semiconductor/FDS2582/FDS2582CT-ND/3025307; Package: 8-SOIC; Supplier 1: Digi-Key; Supplier Part Number 1: FDS2582CT-ND
footprint 8-SOIC MOSFET
pins: D, G, S

## FERRITE BEAD 200 MOHM 0603 1LN
designator FB?, comment 600R/1A
WURTH ELEKTRONIK - 742792651 - Ferrite Bead, 0603 [1608 Metric], 600 ohm, 1 A, WE-CBF Series, 0.2 ohm, &#177; 25%; Manufacturer: Wurth Electronics; Current Rating: 1A; Impedance: 600R; Number of Lines: 1; DC Resistance (DCR): 200mR; Test Frequency: 100MHz; Inductance: 0.36H; Supplier 1: Digi-Key; Manufacturer Part Number: 742792651; RoHS: Yes; Category: Ferrite Beads and Chips; Stock 1: 492945; Pricing 1: 1=0.17000, 50=0.16800, 100=0.15500, 500=0.14800, 1000=0.14100, 2000=0.13400 (USD); Mount: Surface Mount; Case/Package: SMD/SMT; Case Code (Metric): 1608; Case Code (Imperial): 0603; Material: Ferrite; Core Material: Ferrite; Weight: 0.000141oz; Min Operating Temperature: -55°C; Max Operating Temperature: 125°C; Tolerance: 25%; Package Quantity: 1; Packaging: Tape and Reel; Max Current Rating: 1A; Max DC Current: 1A; Termination: SMD/SMT; Series: WE-CBF; Resistance: 200mR; Length: 1.6mm; Width: 0.8mm; Height: 0.8mm; Depth: 0.8mm; REACH SVHC: Unknown; RoHS Compliant: Yes; Lead Free: Lead Free; ComponentLink1URL: https://datasheet.ciiva.com/1013/742792651-1013527.pdf?src-supplier=Digi-Key; ComponentLink1Description: https://datasheet.ciiva.com/1013/742792651-1013527.pdf?src-supplier=Digi-Key; ComponentLink2URL: https://datasheet.ciiva.com/1475/1705833-1475349.pdf?src-supplier=Farnell; ComponentLink2Description: https://datasheet.ciiva.com/1475/1705833-1475349.pdf?src-supplier=Farnell; ComponentLink3URL: https://datasheet.ciiva.com/4940/742792651-72243-4940492.pdf?src-supplier=Mouser; ComponentLink3Description: https://datasheet.ciiva.com/4940/742792651-72243-4940492.pdf?src-supplier=Mouser; ComponentLink4URL: https://datasheet.ciiva.com/11803/0900766b80d2e079-11803680.pdf?src-supplier=RSComponents; ComponentLink4Description: https://datasheet.ciiva.com/11803/0900766b80d2e079-11803680.pdf?src-supplier=RSComponents; ComponentLink5URL: https://datasheet.ciiva.com/1013/742792651-1013528.pdf?src-supplier=Digi-Key; ComponentLink5Description: https://datasheet.ciiva.com/1013/742792651-1013528.pdf?src-supplier=Digi-Key; ComponentLink6URL: https://datasheet.ciiva.com/1013/742792651-1013529.pdf?src-supplier=Digi-Key; ComponentLink6Description: https://datasheet.ciiva.com/1013/742792651-1013529.pdf?src-supplier=Digi-Key; ComponentLink7URL: https://datasheet.ciiva.com/22711/1705833-22711420.pdf?src-supplier=Element14; ComponentLink7Description: https://datasheet.ciiva.com/22711/1705833-22711420.pdf?src-supplier=Element14; Supplier Part Number 1: 732-1593-1-ND
footprint 0603 (Chip Resistor, 2-Leads, Body 1.60x0.80mm, IPC High Density)
pins: 1, 2

## FET P_CH SOT23_3
designator U?
P-Channel MOSFET General Purpose P-CH SOT23-3; Parameter 1: C10487
footprint SOT-23 (3)
pins: D, G, S

## FGY75N60SMD
designator Q
IGBT Field Stop 600V 150A 750W Through Hole PowerTO-247-3; MF: ON Semiconductor; MP: FGY75N60SMD; Vge max: ±20V; Topology: Field Stop IGBT; Vce max: 600V; Package: TO-247 Fairchild Semiconductor; Ic max: 150A; Power: 750W; Supplier 1: Digi-Key; Supplier Part Number 1: FGY75N60SMDFS-ND
footprint TO-247-3
footprint TO-247-3 - FaceDown
pins: 1 G, 2 C, 3 E

## FUSE 1A 32V FAST
designator F?
FUSE 1A 32V DC 0603; Response Time: Fast Blow; Current Rating: 1A; ComponentLink1Description: digikey; ComponentLink1URL: https://www.digikey.ca/en/products/detail/kemet/C0603C100K5RAC7867/8572397; Voltage Rating - DC: 32V; Operating Temperature: -55°C ~ 90°C
footprint 0603
pins: 1, 2

## FUSE 3A 63V SLOW
designator F?, comment Fuse 3A 1206
FUSE 3A 63V AC/DC SLOW 1206; Response Time: Slow Blow; Current Rating (Amps): 3A; Operating Temperature: -55°C ~ 90°C; Voltage Rating - AC: 63V; Voltage Rating - DC: 63V
footprint 1206
pins: 1, 2

## FUSE 10A 63V SLOW
designator F?, comment Fuse 10A 1206
FUSE 10A 32V AC 63V DC 1206; Response Time: Slow Blow; Rating: 10A; Voltage Rating - DC: 63V; Voltage Rating - AC: 32V; Operating Temperature: -55°C ~ 90°C
footprint 1206
pins: 1, 2

## FUSE 20A 63V SLOW
designator F?, comment Fuse 20A 1206
FUSE 20A 32V AC 63V DC 1206; Response Time: Slow Blow; Current Rating (Amps): 20A; Voltage Rating - AC: 32V; Voltage Rating - DC: 63V; Operating Temperature: -55°C ~ 90°C
footprint 1206
pins: 1, 2

## FUSE BLADE
designator F?, comment 3557-2  Supplier Part Number 1: 36-3557-2-ND
Fuse Block 30A 500V 1 Circuit Blade Through Hole; MF: Keystone Electronics; Package: Nonstandard Keystone; Value: *; Price: None; MP: 3557-2; SnapEDA_Link: https://www.snapeda.com/parts/3557-2/Keystone%20Electronics/view-part/278060/?ref=snap; Availability: Unavailable; Supplier 1: Digi-Key
footprint FUSE-3549-2 (Keystone Miniblade FUSE_3549-2)
pins: 1 1A, 2 1B, 3 2A, 4 2B

## GA3459
designator T?
Audio Transformers / Signal Transformers GA3459 for LT3751 500V 20A; Supplier 1: Mouser; Supplier Part Number 1: 994-GA3459-BL
footprint GA34XX-BL
pins: 1, 2, 3, 4, 6, 7, 9, 10, 11, 12

## IC 74LVC3G17DC,125
designator U?, comment 74LVC3G17DC,125
IC BUFFER TRIPLE SCHMITT TRIGGER 5.5V VSSOP-8; Manufacturer: Nexperia; Supplier 1: Newark; Manufacturer Part Number: 74LVC3G17DC,125; RoHS: Yes; Category: Logic Gates; Stock 1: 2995; Pricing 1: 1=0.84800, 5=0.83500, 10=0.70800, 25=0.62000, 50=0.53200, 100=0.44500, 250=0.41300, 500=0.38300, 1000=0.35200 (USD); RoHS Compliant: Yes; Supplier Part Number 1: 33AC1281
footprint 8-VSSOP
pins: 1 1A (in), 2 3Y (out), 3 2A (in), 4 GND (power), 5 2Y (out), 6 3A (in), 7 1Y (out), 8 +3.3V (power)

## IC INA226AIDGSR
designator U?, comment INA226AIDGSR
36-V, Bi-Directional, Ultra-High Accuracy, Low-/High-Side, I2C Out Current/Power Monitor w/ Alert 10-VSSOP -40 to 125; MF: Texas Instruments; Price: None; MP: INA226AIDGSR; SnapEDA_Link: https://www.snapeda.com/parts/INA226AIDGSR/Texas%20Instruments/view-part/53552/?ref=snap; Package: MSOP-10 Texas Instruments; Digikey: 296-29034-1-ND; Digikey Link: https://www.digikey.ca/product-detail/en/texas-instruments/INA226AIDGSR/296-29034-1-ND/2687118; Supplier 1: Digi-Key; Supplier Part Number 1: 296-29034-6-ND
footprint 10-VSSOP
pins: 1 A1 (in), 2 A0 (in), 3 ALERT (out), 4 SDA (io), 5 SCL (in), 6 VS (power), 7 GND (power), 8 VBUS (power), 9 IN- (in), 10 IN+ (in)

## IMU ICM-20608-G
designator U?  Supplier Part Number 1: 1428-1052-1-ND
Accelerometer, Gyroscope, 6 Axis Sensor IÂ²C, SPI Output; MF: TDK InvenSense; MP: ICM-20608-G; Package: LGA-16 InvenSense; Purchase-URL: https://pricing.snapeda.com/search/part/ICM-20608-G/?ref=eda; Value: *; Price: None; Availability: Good; SnapEDA_Link: https://www.snapeda.com/parts/ICM-20608-G/TDK%20InvenSense/view-part/196551/?ref=snap; Supplier 1: Digi-Key
footprint PQFN50P300X300X80-16N
pins: 1 VDDIO (power), 2 SCL/SCLK (in), 3 SDA/SDI (io), 4 AD0/SDO (io), 5 CS (in), 6 INT (out), 8 FSYNC (in), 9 GND (power), 10 GND (power), 11 GND (power), 12 GND (power), 13 GND (power), 14 REGOUT (out), 15 GND (power), 16 VDD (power)

## IMU LSM6DSLTR
designator U?, comment LSM6DSLTR
IMU ACCEL/GYRO I2C/SPI 14LGA; MF: STMicroelectronics; SnapEDA_Link: https://www.snapeda.com/parts/LSM6DSLTR/STMicroelectronics/view-part/550517/?ref=snap; MP: LSM6DSLTR; Package: LGA-14 STMicroelectronics; Digikey: https://www.digikey.ca/product-detail/en/stmicroelectronics/LSM6DSLTR/497-16705-1-ND/6192805; Supplier 1: Digi-Key; Supplier Part Number 1: 497-16705-1-ND
footprint LGA-14
pins: 1 SDO/SA0 (io), 2 SDX (io), 3 SCX (io), 4 INT1 (out), 5 VDDIO (power), 6 GND (power), 7 GND (power), 8 VDD (power), 9 INT2 (out), 12 CS (in), 13 SCL (in), 14 SDA (io)

## IND 3.3UH 5.6A 21 MOHM SMD
designator L?, comment SRN8040-3R3Y
3.3µH Semi-Shielded Wirewound Inductor 5.6A 21mOhm Max Nonstandard; MF: Bourns Inc.; Inductance: 3.3uH; MP: SRN8040-3R3Y; Price: None; Package: Nonstandard; ComponentLink1Description: digikey; ComponentLink1URL: https://www.digikey.ca/en/products/detail/bourns-inc/SRU1048-8R2Y/2352912; Digikey: SRN8040-3R3YCT-ND; Digikey Link: https://www.digikey.ca/en/products/detail/bourns-inc/SRN8040-3R3Y/2756131
footprint INDP8279X40M (Precision Wire Wound Inductor, 2-Leads, Body 8.15x7.90mm, IPC Low Density)
pins: 1, 2

## IND 3.3UH 6.6A 15 MOHM SMD
designator L?, comment SRN8040TA-3R3Y  Supplier Part Number 1: SRN8040TA-3R3YCT-ND
3.3 µH Inductor 6.6 A; Package: None; Price: None; Value: *; MP: SRN8040TA-3R3Y; Availability: Unavailable; Supplier 1: Digi-Key
footprint IND_SRN8040TA-3R3Y
pins: 1, 2

## IND 3.3UH 12A 12 MOHM SMD
designator L?, comment Supplier Part Number 1: 541-1020-1-ND  (hidden comment: IHLP5050CEER3R3M01)
3.3uH 12A Shielded Molded Inductor 12mOhm Max; Mfr_Name: Vishay; Type: DEV; Copyright: Copyright (C) 2021 Ultra Librarian. All rights reserved.; Manufacturer_Part_Number: IHLP5050CEER3R3M01; Digi-Key_Part_Number_1: 541-1020-1-ND; Digi-Key_Part_Number_2: 541-1020-2-ND; Digi-Key_Part_Number_3: 541-1020-6-ND; RefDes: RefDes; Supplier 1: Digi-Key
footprint IND_IHLP-5050CE_VIS
pins: 1, 2

## IND 8.2UH 4.6A 15MOHM
designator L?, comment SRU1048-8R2Y
8.2µH Shielded Wirewound Inductor 4.6A 15mOhm Nonstandard; MF: Bourns Inc.; Value: 8.2uH; MP: SRU1048-8R2Y; Price: None; Package: Nonstandard; ComponentLink1Description: digikey; ComponentLink1URL: https://www.digikey.ca/en/products/detail/bourns-inc/SRU1048-8R2Y/2352912; Digikey: SRU1048-8R2YCT-ND; Digikey Link: https://www.digikey.ca/en/products/detail/bourns-inc/SRU1048-8R2Y/2352912
footprint SRU1048-8R2Y
pins: 1, 2

## IND 15UH 3.2A 50 MOHM
designator L?, comment SRN8040TA-150M  Supplier Part Number 1: SRN8040TA-150MCT-ND
15µH Semi-Shielded Wirewound Inductor 2.4A 70mOhm Max Nonstandard; MF: Bourns Inc.; Inductance: 15.0uH; Current - Saturation: 4A; DC Resistance (DCR): 50mOhm; MP: SRN8040TA-150M; Height - Seated (Max): 4.2mm; ComponentLink1Description: digikey; ComponentLink1URL: https://www.digikey.ca/en/products/detail/bourns-inc/SRU1048-8R2Y/2352912; Digikey: SRN8040TA-150MCT-ND; Digikey Link: https://www.digikey.ca/en/products/detail/bourns-inc/SRN8040TA-150M/6155130; Operating Temperature: -40°C ~ 125°C; Size / Dimension: 0.512"" L x 0.512"" W (13.00mm x 13.00mm); Supplier 1: Digi-Key
footprint INDP8279X40M (Precision Wire Wound Inductor, 2-Leads, Body 8.15x7.90mm, IPC Low Density)
pins: 1, 2

## IND 15UH 4.5A 34 MOHM
designator L?, comment SDR1307-150ML
15µH Unshielded Wirewound Inductor 4.5A 34mOhm Max Nonstandard; MF: Bourns Inc.; Inductance: 15.0uH; Current - Saturation: 7.5A; MP: SDR1307-150ML; Height - Seated (Max): 0.287"" (7.30mm); ComponentLink1Description: digikey; ComponentLink1URL: https://www.digikey.ca/en/products/detail/bourns-inc/SRU1048-8R2Y/2352912; Digikey: SDR1307-150MLCT-ND; Digikey Link: https://www.digikey.ca/en/products/detail/bourns-inc/SDR1307-150ML/2561929; DC Resistance (DCR): 34mOhm; Operating Temperature: -40°C ~ 125°C; Size / Dimension: 0.512"" L x 0.512"" W (13.00mm x 13.00mm)
footprint INDP130130X73M (Precision Wire Wound Inductor, 2-Leads, Body 13.00x13.00mm, IPC Low Density)
pins: 1, 2

## IND 22UH 6A 33.1 mOHM SMD
designator L?, comment 22 UH  Supplier Part Number 1: 283-HCM1A1307V2-220-RCT-ND
Automotive Grade High Current Power Inductor 22uH 6A 28.8mOhm 5MHz SRF 2-Pin Surface Mount T/R; Manufacturer: Eaton; Manufacturer Part Number: HCM1A1307V2-220-R; Supplier 1: Digi-Key; RoHS: Yes; Category: Fixed Inductors; Stock 1: 504; Pricing 1: 1=2.16000, 10=1.99600, 25=1.82960, 50=1.56340, 100=1.39710 (USD)
footprint EATON _HCM1A1307V2-220-R (FIXED IND 22UH 6A 33.1 mOHM SMD)
pins: 1, 2

## IND 33UH 10.7A 37 MOHM SMD
designator ?
33µH Shielded Molded Inductor 10.7A 37mOhm; MP: IHLP6767GZER330M11; MF: Vishay Dale; SnapEDA_Link: https://www.snapeda.com/parts/IHLP6767GZER330M11/Vishay%20Dale/view-part/273647/?ref=snap; Digi-Key_Purchase_URL: https://www.digikey.com/product-detail/en/vishay-dale/IHLP6767GZER330M11/541-1289-1-ND/2139415?utm_source=snapeda&utm_medium=aggregator&utm_campaign=symbol; Value: *; Package: Nonstandard Vishay Dale; Digi-Key_Part_Number: 541-1289-1-ND; Supplier 1: Digi-Key; Supplier Part Number 1: 541-1289-1-ND
footprint ER-2
pins: 1, 2

## IND 56UH 4A 65 mOHM SMD
designator L?, comment 56 UH
FIXED IND 56UH 4A 65 MOHM SMD Shielded - Inductor 65mOhm Max Nonstandard -; Value: 56 µH; Digi-Key Part Number: 283-HCM1A1307V2-560-RTR-ND; Current Rating: 4A; DC Resistance: 65mOhm; Supplier 1: Digi-Key; Supplier Part Number 1: 283-HCM1A1307V2-560-RCT-ND
footprint EATON _HCM1A1307V2-560-R (FIXED IND 56UH 4A 65 mOHM SMD)
pins: 1, 2

## IND 68uH 770mA
designator I?
footprint IND 68uH
pins: 1, 2

## IND 100UH 50MA 4 OHM SMD
designator L?
100µH Unshielded Wirewound Inductor 50mA 4Ohm 0805 (2012 Metric); Value: 100uH; MF: Taiyo Yuden; MP: LBR2012T101K; Revision: July-2002: Re-released for DXP Platform.; Digikey: 587-2048-1-ND; Digikey Link: https://www.digikey.ca/product-detail/en/taiyo-yuden/LBR2012T101K/587-2048-1-ND/1788995; Supplier 1: Digi-Key; Supplier Part Number 1: 587-4040-1-ND
footprint 0805
pins: 1, 2

## IR4427STRPBF
designator U
Low-Side Gate Driver IC Non-Inverting 8-SOIC; MF: Infineon Technologies; MP: IR4427STRPBF; Package: SOIC-8 Infineon; Price: None; Availability: Unavailable; SnapEDA_Link: https://www.snapeda.com/parts/IR4427STRPBF/Infineon%20Technologies/view-part/1815787/?ref=snap; Value: *; Supplier 1: Digi-Key; Supplier Part Number 1: IR4427SPBFCT-ND
footprint 8-SOIC
pins: 1 NC_2 (in), 2 INA (in), 3 GND, 4 INB (in), 5 OUTB (out), 6 VS (power), 7 OUTA (out), 8 NC (in)

## ISO ADUM141D1BRQZ
designator U?, comment ADUM141D1BRQZ  Supplier Part Number 1: ADUM141D1BRQZ-RL7
Digital Isolator CMOS 4-CH 150Mbps 16-Pin QSOP T/R; Manufacturer: Analog Devices; Isolated Power: No; Number of Channels: 4; Channel Type: Unidirectional; Propagation Delay: 13ns; Pulse Width Distortion (PWD): 3ns; Supplier 1: Arrow Electronics; Manufacturer Part Number: ADUM141D1BRQZ-RL7; RoHS: Yes; Category: Interface ICs; Stock 1: 341; Pricing 1: 1=3.87700, 10=3.47000, 25=3.26100, 50=3.22900, 100=2.78500, 250=2.67500 (USD); Mount: Surface Mount; Case/Package: SSOP; Number of Pins: 16; Min Operating Temperature: -40°C; Max Operating Temperature: 125°C; Type: General Purpose; Packaging: Tape and Reel; Data Rate: 150Mbps; RoHS Compliant: Yes; ComponentLink1URL: https://www.analog.com/media/en/technical-documentation/data-sheets/ADuM140D_140E_141D_141E_142D_142E.pdf?src-supplier=Digi-Key; ComponentLink1Description: https://www.analog.com/media/en/technical-documentation/data-sheets/ADuM140D_140E_141D_141E_142D_142E.pdf?src-supplier=Digi-Key
footprint SOP64P600X175-16N (SOP, 16-Leads, Body 4.90x3.91mm, Pitch 0.64mm, IPC Medium Density)
footprint SOP64P600X175-16M (SOP, 16-Leads, Body 4.90x3.91mm, Pitch 0.64mm, IPC Low Density)
pins: 1 VCC1 (power), 2 GND1 (power), 3 INA (in), 4 INB (in), 5 INC (in), 6 OUTD (out), 7 DIS1, 8 GND1 (power), 9 GND2 (power), 10 DIS2, 11 IND (in), 12 OUTC (out), 13 OUTB (out), 14 OUTA (out), 15 GND2 (power), 16 VCC2 (power)
text: ISOLATION

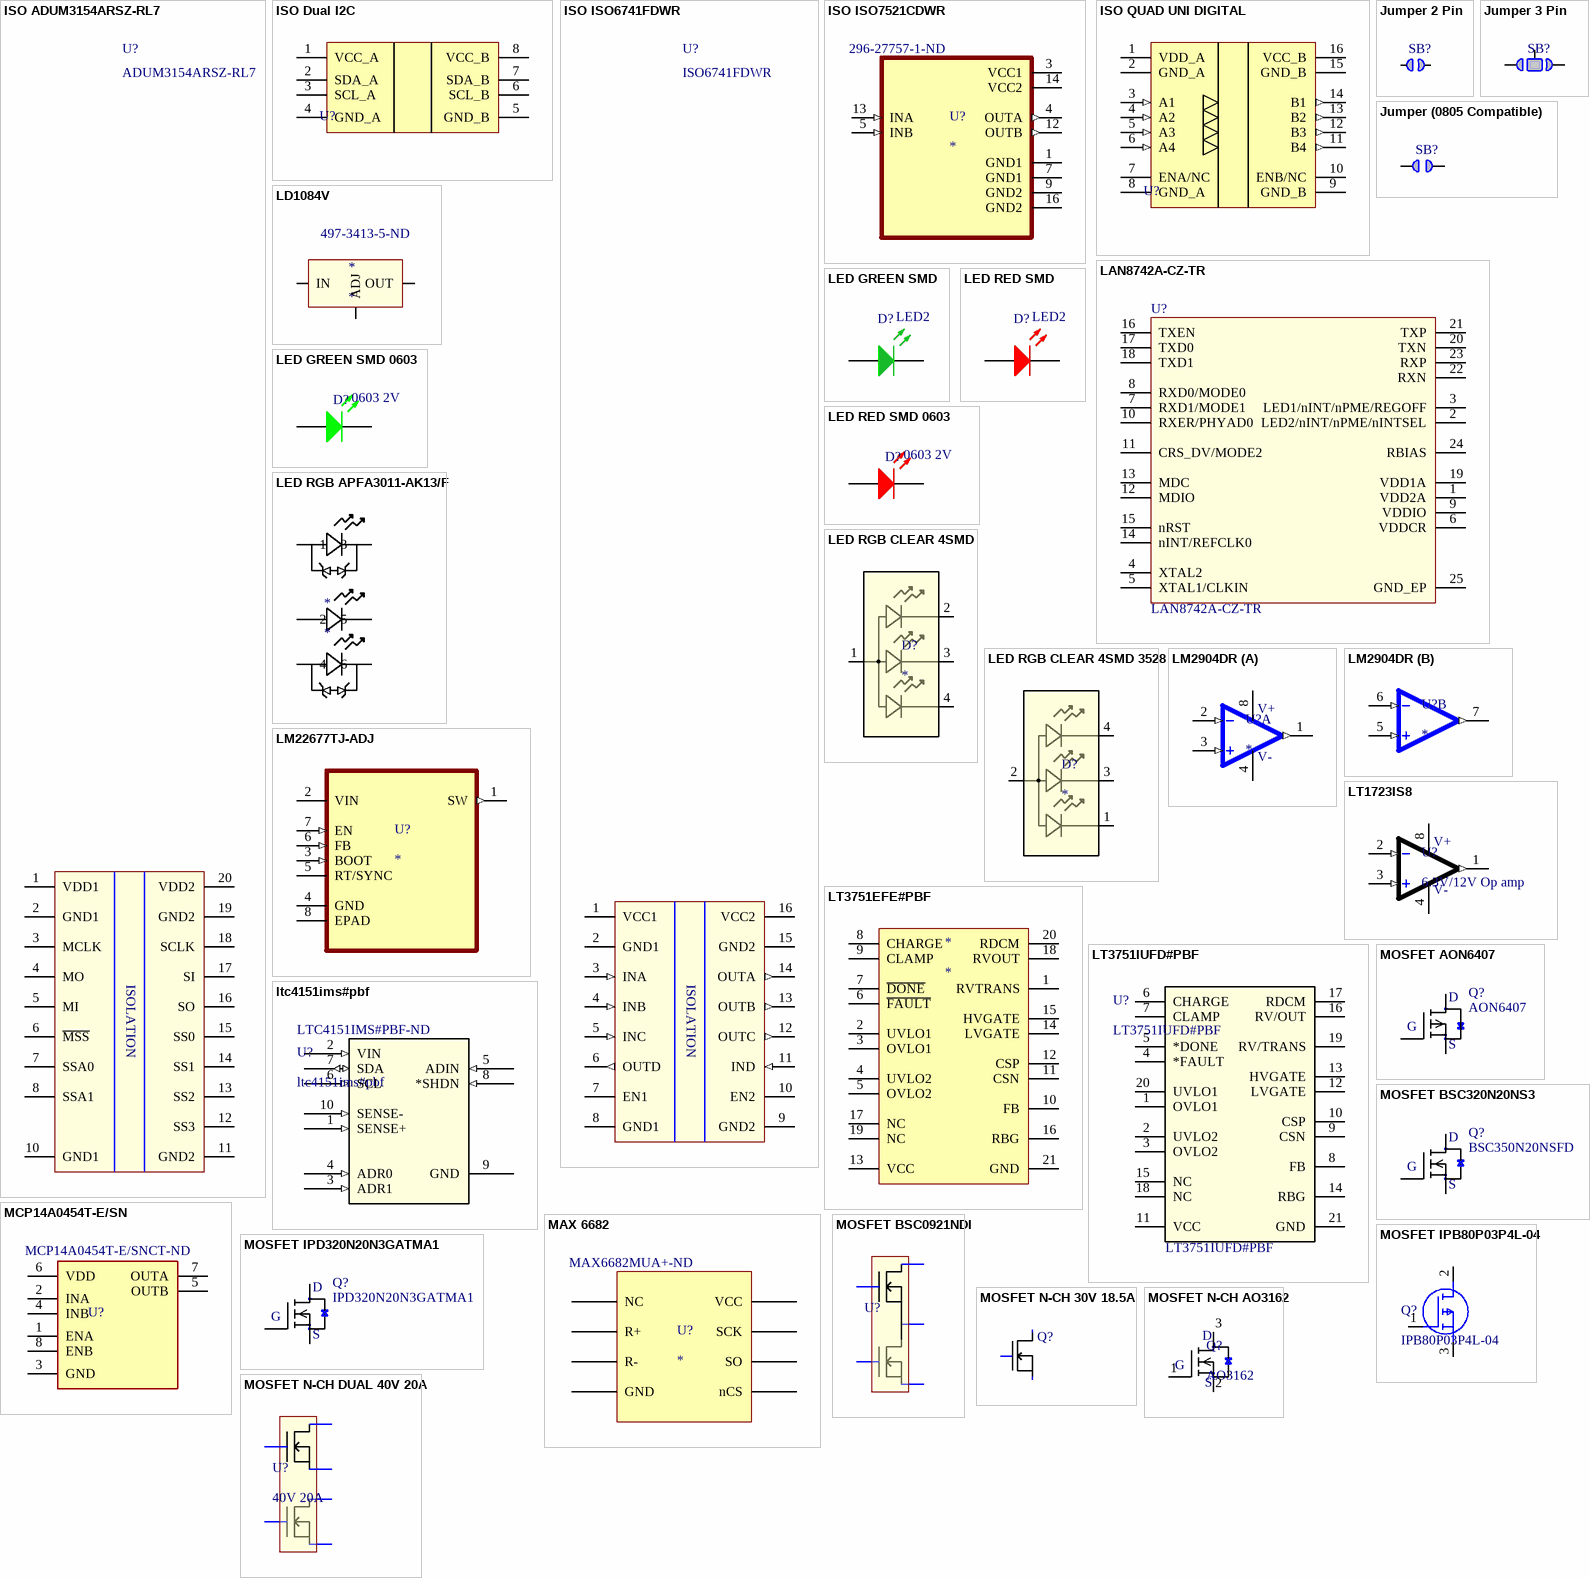
[diagram p6: symbols ISO ADUM3154ARSZ-RL7 to MOSFET N-CH DUAL 40V 20A]

## ISO ADUM3154ARSZ-RL7
designator U?, comment ADUM3154ARSZ-RL7
DGTL ISO 3.75KV 4CH SPI 20SSOP; Manufacturer: Analog Devices; Number of Channels: 4; Channel Type: Unidirectional; Data Rate: 34Mbps; Propagation Delay: 25ns; Max Supply Voltage: 5.5V; Min Supply Voltage: 3V; Operating Supply Current: 6.5mA; Max Power Dissipation: 1.4W; Isolated Power: No; Pulse Width Distortion (PWD): 2ns; Supplier 1: Digi-Key; Manufacturer Part Number: ADUM3154ARSZ-RL7; RoHS: Yes; Category: Interface ICs; Stock 1: 226; Pricing 1: 1=6.07000, 10=5.44900, 25=5.15160, 100=4.46470, 250=4.23576 (USD); Mount: Surface Mount; Case/Package: SSOP; Number of Pins: 20; Weight: 0.016oz; Contact Plating: Tin,Matte; Min Operating Temperature: -40°C; Max Operating Temperature: 125°C; Packaging: Tape and Reel; Polarity: Unidirectional; Turn-On Delay Time: 25ns; Package Quantity: 500; Lead Free: Contains Lead; RoHS Compliant: Yes; ComponentLink1URL: https://datasheet.ciiva.com/48509/adum3154-48509240.pdf?src-supplier=Avnet; ComponentLink1Description: https://datasheet.ciiva.com/48509/adum3154-48509240.pdf?src-supplier=Avnet; Supplier Part Number 1: ADUM3154ARSZ-RL7CT-ND
footprint 20-SSOP
pins: 1 VDD1, 2 GND1, 3 MCLK, 4 MO, 5 MI, 6 ~{MSS}, 7 SSA0, 8 SSA1, 10 GND1, 11 GND2, 12 SS3, 13 SS2, 14 SS1, 15 SS0, 16 SO, 17 SI, 18 SCLK, 19 GND2, 20 VDD2
text: ISOLATION

## ISO Dual I2C
designator U?
Digital Isolation Dual Ch Bidirectional I2C; Revision: 1
footprint SOIC127P600X175-8N (SOIC, 8-Leads, Body 4.91x3.95mm, Pitch 1.27mm, IPC Medium Density)
pins: 1 VCC_A, 2 SDA_A, 3 SCL_A, 4 GND_A, 5 GND_B, 6 SCL_B, 7 SDA_B, 8 VCC_B

## ISO ISO6741FDWR
designator U?, comment ISO6741FDWR
ISO GENERAL-PURPOSE, QUAD-CHANNEL, 3/1; Manufacturer: Texas Instruments; Supplier 1: Digi-Key; Manufacturer Part Number: ISO6741FDWR; RoHS: Yes; Category: Integrated Circuits (ICs); Stock 1: 1835; Pricing 1: 1=2.82000, 10=2.53000, 25=2.39200, 100=2.07320, 250=1.96688, 500=1.76488, 1000=1.75525 (USD); RoHS Compliant: Yes; Supplier Part Number 1: 296-ISO6741FDWRCT-ND
footprint 16-SOIC
pins: 1 VCC1 (power), 2 GND1 (power), 3 INA (in), 4 INB (in), 5 INC (in), 6 OUTD (out), 7 EN1, 8 GND1 (power), 9 GND2 (power), 10 EN2, 11 IND (in), 12 OUTC (out), 13 OUTB (out), 14 OUTA (out), 15 GND2 (power), 16 VCC2 (power)
text: ISOLATION